# Altium integrated library Maxim Analog Filters.IntLib: 555 symbols (part 19 of 26)
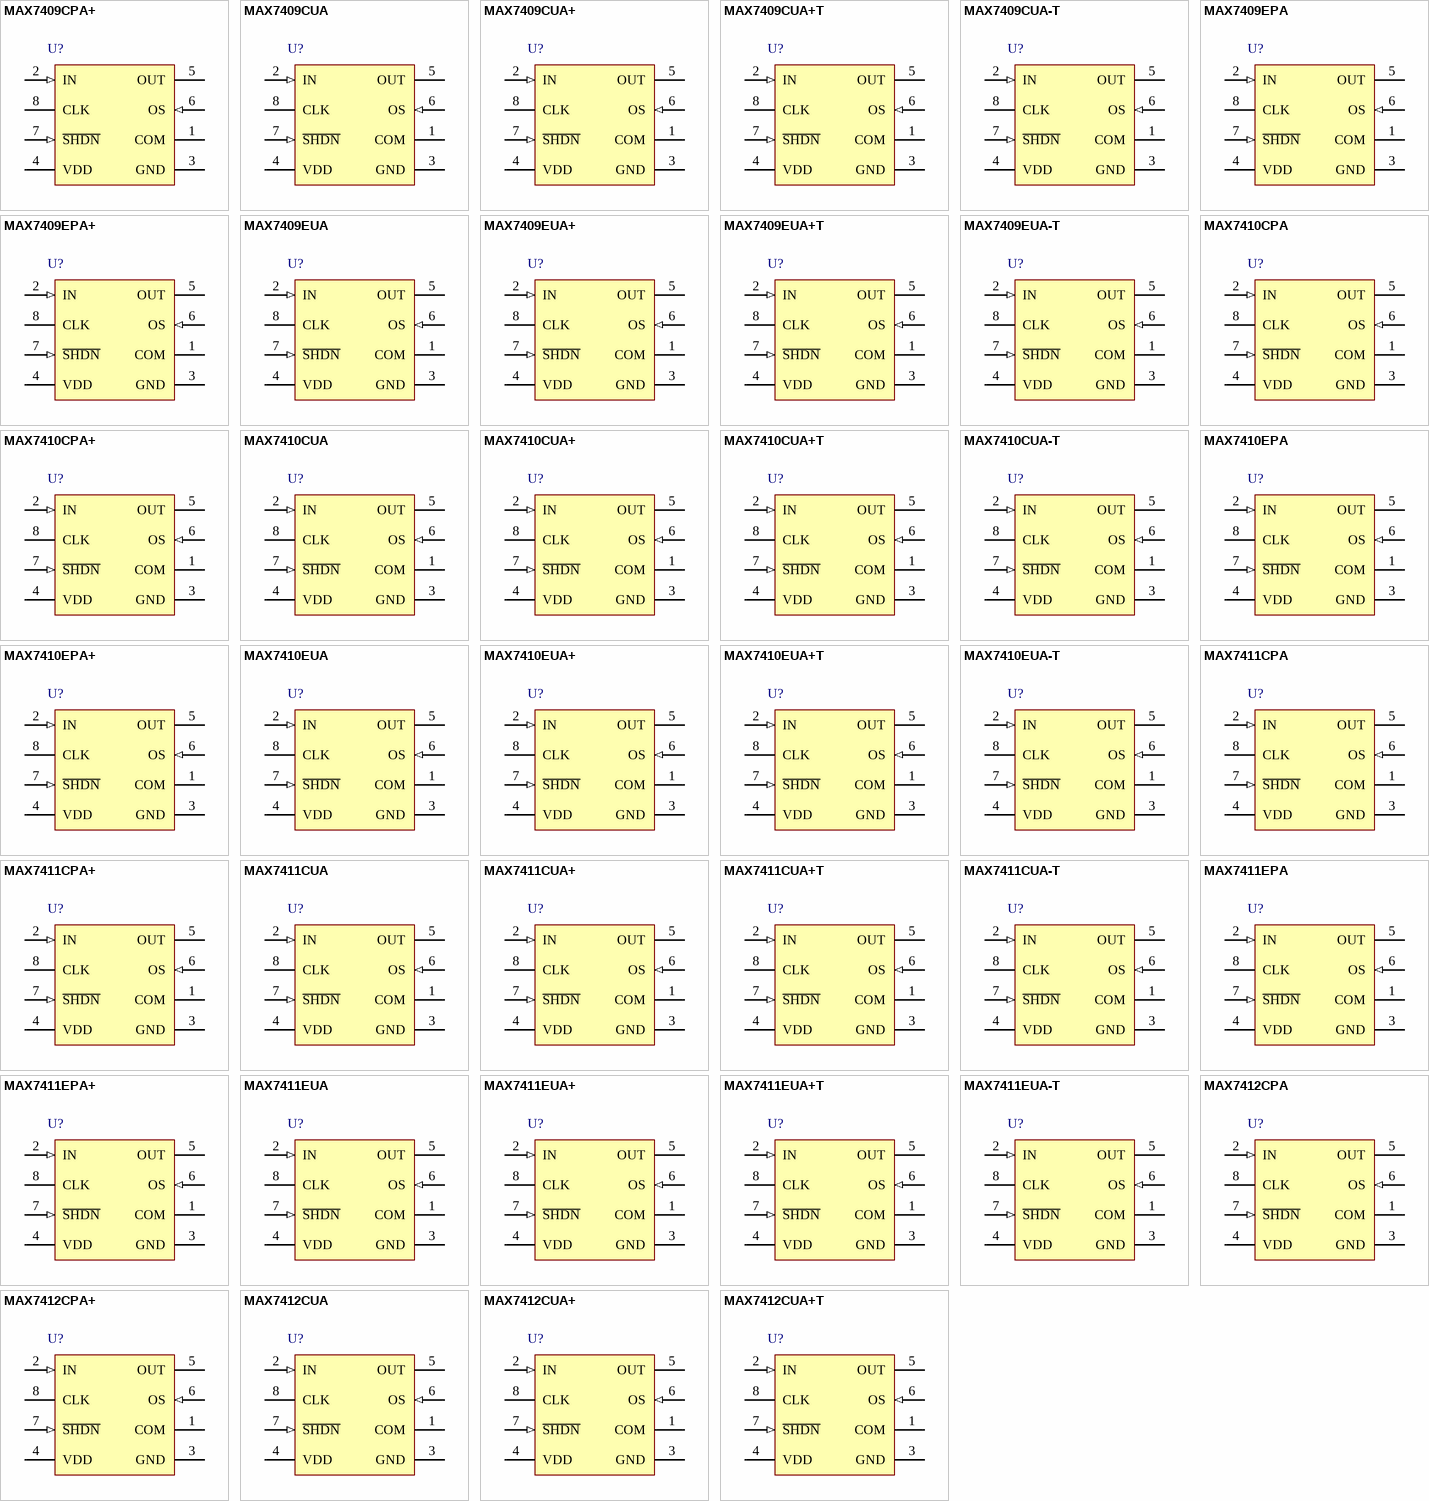
[diagram p35: symbols MAX7409CPA+ to MAX7412CUA+T]

## MAX7410EPA+
designator U?
5th-Order Switched Capacitor Lowpass Filter, Butterworth, 5 V, -40 to 85 degC, 8-Pin DIP (P8+1), Pb-Free; Generic Part Number: MAX7410; PartNumber: MAX7410EPA+; Filter Sections: 1; Order Per Filter Section: 5; Program Method: Clock; DatasheetVersion: Rev. 1; PackageVersion: Rev. E, 04/2011; PackageReference: P8+1; PackageDescription: 8-Pin Plastic Dual-In-Line, Narrow (0.3in) (P8+1), Body 9.375 x 6.985 mm, Pitch 2.54 mm; Supplier 1: Digi-Key; Supplier Part Number 1: MAX7410EPA+-ND; Supplier 2: Mouser; Supplier Part Number 2: 700-MAX7410EPA; Filter Characteristic: Butterworth; Filter Class: Switched Cap; Filter Type: Lowpass; RoHS: Pb-Free; Mounting Technology: Through Hole; Code_JEDEC: MS001-XX; ComponentLink1Description: Manufacturer URL; ComponentLink1URL: http://www.maximintegrated.com/; ComponentLink2Description: Datasheet; ComponentLink2URL: http://datasheets.maximintegrated.com/en/ds/MAX7409-MAX7414.pdf; ComponentLink3Description: Package Specification; ComponentLink3URL: http://pdfserv.maximintegrated.com/package_dwgs/21-0043.PDF
footprint MAXM-P8+1 (DIP, 8-Leads, Body 9.375x6.985mm, Pitch 2.54mm)
pins: 1 COM "Common Input. Biased internally at midsupply. Bypass externally to GND with a 0.1uF capacitor. To override internal biasing, drive with an external supply.", 2 IN (in) "Filter Input", 3 GND (power) "Ground", 4 VDD (power) "Positive Supply Input: +5V for MAX7400/MAX7403, +3V for MAX7404/MAX7407", 5 OUT (hiz) "Filter Output", 6 OS (in) "Offset Adjust Input. To adjust output offset, bias OS externally. Connect OS to COM if no offset adjustment is needed. Refer to Offset and Common-Mode Input Adjustment section.", 7 ~{SHDN} (in) "Shutdown Input. Drive low to enable shutdown mode; drive high or connect to VDD for normal operation.", 8 CLK "Clock Input. To override the internal oscillator, connect to an external clock; otherwise, connect an external capacitor (COSC) from CLK to GND to set the internal oscillator frequency."

## MAX7410EUA
designator U?
5th-Order Switched Capacitor Lowpass Filter, Butterworth, 5 V, -40 to 85 degC, 8-Pin SOP (U8-1); Generic Part Number: MAX7410; PartNumber: MAX7410EUA; Filter Sections: 1; Order Per Filter Section: 5; Program Method: Clock; DatasheetVersion: Rev. 1; PackageVersion: Rev. L, 08/2009; PackageReference: U8-1; PackageDescription: 8-Pin Micro-MAX, Thin Shrink Small-Outline (U8-1), Body 3 x 3 mm, Pitch 0.65mm; Supplier 1: Mouser; Supplier Part Number 1: N/A; Filter Characteristic: Butterworth; Filter Class: Switched Cap; Filter Type: Lowpass; Mounting Technology: Surface Mount; Code_JEDEC: MO-187; ComponentLink1Description: Manufacturer URL; ComponentLink1URL: http://www.maximintegrated.com/; ComponentLink2Description: Datasheet; ComponentLink2URL: http://datasheets.maximintegrated.com/en/ds/MAX7409-MAX7414.pdf; ComponentLink3Description: Package Specification; ComponentLink3URL: http://pdfserv.maximintegrated.com/package_dwgs/21-0036.PDF
footprint MAXM-U8-1_N (SOP, 8-Leads, Body 3x3mm, Pitch 0.65mm, IPC Medium Density)
footprint MAXM-U8-1_L (SOP, 8-Leads, Body 3x3mm, Pitch 0.65mm, IPC High Density)
footprint MAXM-U8-1_M (SOP, 8-Leads, Body 3x3mm, Pitch 0.65mm, IPC Low Density)
pins: 1 COM "Common Input. Biased internally at midsupply. Bypass externally to GND with a 0.1uF capacitor. To override internal biasing, drive with an external supply.", 2 IN (in) "Filter Input", 3 GND (power) "Ground", 4 VDD (power) "Positive Supply Input: +5V for MAX7400/MAX7403, +3V for MAX7404/MAX7407", 5 OUT (hiz) "Filter Output", 6 OS (in) "Offset Adjust Input. To adjust output offset, bias OS externally. Connect OS to COM if no offset adjustment is needed. Refer to Offset and Common-Mode Input Adjustment section.", 7 ~{SHDN} (in) "Shutdown Input. Drive low to enable shutdown mode; drive high or connect to VDD for normal operation.", 8 CLK "Clock Input. To override the internal oscillator, connect to an external clock; otherwise, connect an external capacitor (COSC) from CLK to GND to set the internal oscillator frequency."

## MAX7410EUA+
designator U?
5th-Order Switched Capacitor Lowpass Filter, Butterworth, 5 V, -40 to 85 degC, 8-Pin SOP (U8+1), Pb-Free; Generic Part Number: MAX7410; PartNumber: MAX7410EUA+; Filter Sections: 1; Order Per Filter Section: 5; Program Method: Clock; DatasheetVersion: Rev. 1; PackageVersion: Rev. L, 08/2009; PackageReference: U8+1; PackageDescription: 8-Pin Micro-MAX, Thin Shrink Small-Outline (U8+1), Body 3 x 3 mm, Pitch 0.65 mm; Supplier 1: Digi-Key; Supplier Part Number 1: MAX7410EUA+-ND; Supplier 2: Farnell; Supplier Part Number 2: 1550460; Supplier 3: Newark; Supplier Part Number 3: 26R6614; Supplier 4: Mouser; Supplier Part Number 4: 700-MAX7410EUA; Filter Characteristic: Butterworth; Filter Class: Switched Cap; Filter Type: Lowpass; RoHS: Pb-Free; Mounting Technology: Surface Mount; Code_JEDEC: MO-187; ComponentLink1Description: Manufacturer URL; ComponentLink1URL: http://www.maximintegrated.com/; ComponentLink2Description: Datasheet; ComponentLink2URL: http://datasheets.maximintegrated.com/en/ds/MAX7409-MAX7414.pdf; ComponentLink3Description: Package Specification; ComponentLink3URL: http://pdfserv.maximintegrated.com/package_dwgs/21-0036.PDF
footprint MAXM-U8+1_N (SOP, 8-Leads, Body 3x3mm, Pitch 0.65mm, IPC Medium Density)
footprint MAXM-U8+1_L (SOP, 8-Leads, Body 3x3mm, Pitch 0.65mm, IPC High Density)
footprint MAXM-U8+1_M (SOP, 8-Leads, Body 3x3mm, Pitch 0.65mm, IPC Low Density)
pins: 1 COM "Common Input. Biased internally at midsupply. Bypass externally to GND with a 0.1uF capacitor. To override internal biasing, drive with an external supply.", 2 IN (in) "Filter Input", 3 GND (power) "Ground", 4 VDD (power) "Positive Supply Input: +5V for MAX7400/MAX7403, +3V for MAX7404/MAX7407", 5 OUT (hiz) "Filter Output", 6 OS (in) "Offset Adjust Input. To adjust output offset, bias OS externally. Connect OS to COM if no offset adjustment is needed. Refer to Offset and Common-Mode Input Adjustment section.", 7 ~{SHDN} (in) "Shutdown Input. Drive low to enable shutdown mode; drive high or connect to VDD for normal operation.", 8 CLK "Clock Input. To override the internal oscillator, connect to an external clock; otherwise, connect an external capacitor (COSC) from CLK to GND to set the internal oscillator frequency."

## MAX7410EUA+T
designator U?
5th-Order Switched Capacitor Lowpass Filter, Butterworth, 5 V, -40 to 85 degC, 8-Pin SOP (U8+1), Pb-Free, Tape and Reel; Generic Part Number: MAX7410; PartNumber: MAX7410EUA+T; Filter Sections: 1; Order Per Filter Section: 5; Program Method: Clock; DatasheetVersion: Rev. 1; PackageVersion: Rev. L, 08/2009; PackageReference: U8+1; PackageDescription: 8-Pin Micro-MAX, Thin Shrink Small-Outline (U8+1), Body 3 x 3 mm, Pitch 0.65 mm; Supplier 1: Digi-Key; Supplier Part Number 1: MAX7410EUA+T-ND; Supplier 2: Mouser; Supplier Part Number 2: 700-MAX7410EUAT; Filter Characteristic: Butterworth; Filter Class: Switched Cap; Filter Type: Lowpass; Packing: Tape and Reel; RoHS: Pb-Free; Mounting Technology: Surface Mount; Code_JEDEC: MO-187; ComponentLink1Description: Manufacturer URL; ComponentLink1URL: http://www.maximintegrated.com/; ComponentLink2Description: Datasheet; ComponentLink2URL: http://datasheets.maximintegrated.com/en/ds/MAX7409-MAX7414.pdf; ComponentLink3Description: Package Specification; ComponentLink3URL: http://pdfserv.maximintegrated.com/package_dwgs/21-0036.PDF
footprint MAXM-U8+1_N (SOP, 8-Leads, Body 3x3mm, Pitch 0.65mm, IPC Medium Density)
footprint MAXM-U8+1_L (SOP, 8-Leads, Body 3x3mm, Pitch 0.65mm, IPC High Density)
footprint MAXM-U8+1_M (SOP, 8-Leads, Body 3x3mm, Pitch 0.65mm, IPC Low Density)
pins: 1 COM "Common Input. Biased internally at midsupply. Bypass externally to GND with a 0.1uF capacitor. To override internal biasing, drive with an external supply.", 2 IN (in) "Filter Input", 3 GND (power) "Ground", 4 VDD (power) "Positive Supply Input: +5V for MAX7400/MAX7403, +3V for MAX7404/MAX7407", 5 OUT (hiz) "Filter Output", 6 OS (in) "Offset Adjust Input. To adjust output offset, bias OS externally. Connect OS to COM if no offset adjustment is needed. Refer to Offset and Common-Mode Input Adjustment section.", 7 ~{SHDN} (in) "Shutdown Input. Drive low to enable shutdown mode; drive high or connect to VDD for normal operation.", 8 CLK "Clock Input. To override the internal oscillator, connect to an external clock; otherwise, connect an external capacitor (COSC) from CLK to GND to set the internal oscillator frequency."

## MAX7410EUA-T
designator U?
5th-Order Switched Capacitor Lowpass Filter, Butterworth, 5 V, -40 to 85 degC, 8-Pin SOP (U8-1),Tape and Reel; Generic Part Number: MAX7410; PartNumber: MAX7410EUA-T; Filter Sections: 1; Order Per Filter Section: 5; Program Method: Clock; DatasheetVersion: Rev. 1; PackageVersion: Rev. L, 08/2009; PackageReference: U8-1; PackageDescription: 8-Pin Micro-MAX, Thin Shrink Small-Outline (U8-1), Body 3 x 3 mm, Pitch 0.65mm; Supplier 1: Mouser; Supplier Part Number 1: N/A; Filter Characteristic: Butterworth; Filter Class: Switched Cap; Filter Type: Lowpass; Packing: Tape and Reel; Mounting Technology: Surface Mount; Code_JEDEC: MO-187; ComponentLink1Description: Manufacturer URL; ComponentLink1URL: http://www.maximintegrated.com/; ComponentLink2Description: Datasheet; ComponentLink2URL: http://datasheets.maximintegrated.com/en/ds/MAX7409-MAX7414.pdf; ComponentLink3Description: Package Specification; ComponentLink3URL: http://pdfserv.maximintegrated.com/package_dwgs/21-0036.PDF
footprint MAXM-U8-1_N (SOP, 8-Leads, Body 3x3mm, Pitch 0.65mm, IPC Medium Density)
footprint MAXM-U8-1_L (SOP, 8-Leads, Body 3x3mm, Pitch 0.65mm, IPC High Density)
footprint MAXM-U8-1_M (SOP, 8-Leads, Body 3x3mm, Pitch 0.65mm, IPC Low Density)
pins: 1 COM "Common Input. Biased internally at midsupply. Bypass externally to GND with a 0.1uF capacitor. To override internal biasing, drive with an external supply.", 2 IN (in) "Filter Input", 3 GND (power) "Ground", 4 VDD (power) "Positive Supply Input: +5V for MAX7400/MAX7403, +3V for MAX7404/MAX7407", 5 OUT (hiz) "Filter Output", 6 OS (in) "Offset Adjust Input. To adjust output offset, bias OS externally. Connect OS to COM if no offset adjustment is needed. Refer to Offset and Common-Mode Input Adjustment section.", 7 ~{SHDN} (in) "Shutdown Input. Drive low to enable shutdown mode; drive high or connect to VDD for normal operation.", 8 CLK "Clock Input. To override the internal oscillator, connect to an external clock; otherwise, connect an external capacitor (COSC) from CLK to GND to set the internal oscillator frequency."

## MAX7411CPA
designator U?
5th-Order Switched Capacitor Lowpass Filter, Elliptic, 5 V, 0 to 70 degC, 8-Pin DIP (P8-1); Generic Part Number: MAX7411; PartNumber: MAX7411CPA; Filter Sections: 1; Order Per Filter Section: 5; Program Method: Clock; DatasheetVersion: Rev. 1; PackageVersion: Rev. E, 04/2011; PackageReference: P8-1; PackageDescription: 8-Pin Plastic Dual-In-Line, Narrow (0.3in) (P8-1), Body 9.375 x 6.985 mm, Pitch 2.54 mm; Supplier 1: Mouser; Supplier Part Number 1: N/A; Filter Characteristic: Elliptic; Filter Class: Switched Cap; Filter Type: Lowpass; Mounting Technology: Through Hole; Code_JEDEC: MS001-XX; ComponentLink1Description: Manufacturer URL; ComponentLink1URL: http://www.maximintegrated.com/; ComponentLink2Description: Datasheet; ComponentLink2URL: http://datasheets.maximintegrated.com/en/ds/MAX7408-MAX7415.pdf; ComponentLink3Description: Package Specification; ComponentLink3URL: http://pdfserv.maximintegrated.com/package_dwgs/21-0043.PDF
footprint MAXM-P8-1 (DIP, 8-Leads, Body 9.375x6.985mm, Pitch 2.54mm)
pins: 1 COM "Common Input. Biased internally at midsupply. Bypass externally to GND with a 0.1uF capacitor. To override internal biasing, drive with an external supply.", 2 IN (in) "Filter Input", 3 GND (power) "Ground", 4 VDD (power) "Positive Supply Input: +5V for MAX7400/MAX7403, +3V for MAX7404/MAX7407", 5 OUT (hiz) "Filter Output", 6 OS (in) "Offset Adjust Input. To adjust output offset, bias OS externally. Connect OS to COM if no offset adjustment is needed. Refer to Offset and Common-Mode Input Adjustment section.", 7 ~{SHDN} (in) "Shutdown Input. Drive low to enable shutdown mode; drive high or connect to VDD for normal operation.", 8 CLK "Clock Input. To override the internal oscillator, connect to an external clock; otherwise, connect an external capacitor (COSC) from CLK to GND to set the internal oscillator frequency."

## MAX7411CPA+
designator U?
5th-Order Switched Capacitor Lowpass Filter, Elliptic, 5 V, 0 to 70 degC, 8-Pin DIP (P8+1), Pb-Free; Generic Part Number: MAX7411; PartNumber: MAX7411CPA+; Filter Sections: 1; Order Per Filter Section: 5; Program Method: Clock; DatasheetVersion: Rev. 1; PackageVersion: Rev. E, 04/2011; PackageReference: P8+1; PackageDescription: 8-Pin Plastic Dual-In-Line, Narrow (0.3in) (P8+1), Body 9.375 x 6.985 mm, Pitch 2.54 mm; Supplier 1: Digi-Key; Supplier Part Number 1: MAX7411CPA+-ND; Supplier 2: Mouser; Supplier Part Number 2: 700-MAX7411CPA; Filter Characteristic: Elliptic; Filter Class: Switched Cap; Filter Type: Lowpass; RoHS: Pb-Free; Mounting Technology: Through Hole; Code_JEDEC: MS001-XX; ComponentLink1Description: Manufacturer URL; ComponentLink1URL: http://www.maximintegrated.com/; ComponentLink2Description: Datasheet; ComponentLink2URL: http://datasheets.maximintegrated.com/en/ds/MAX7408-MAX7415.pdf; ComponentLink3Description: Package Specification; ComponentLink3URL: http://pdfserv.maximintegrated.com/package_dwgs/21-0043.PDF
footprint MAXM-P8+1 (DIP, 8-Leads, Body 9.375x6.985mm, Pitch 2.54mm)
pins: 1 COM "Common Input. Biased internally at midsupply. Bypass externally to GND with a 0.1uF capacitor. To override internal biasing, drive with an external supply.", 2 IN (in) "Filter Input", 3 GND (power) "Ground", 4 VDD (power) "Positive Supply Input: +5V for MAX7400/MAX7403, +3V for MAX7404/MAX7407", 5 OUT (hiz) "Filter Output", 6 OS (in) "Offset Adjust Input. To adjust output offset, bias OS externally. Connect OS to COM if no offset adjustment is needed. Refer to Offset and Common-Mode Input Adjustment section.", 7 ~{SHDN} (in) "Shutdown Input. Drive low to enable shutdown mode; drive high or connect to VDD for normal operation.", 8 CLK "Clock Input. To override the internal oscillator, connect to an external clock; otherwise, connect an external capacitor (COSC) from CLK to GND to set the internal oscillator frequency."

## MAX7411CUA
designator U?
5th-Order Switched Capacitor Lowpass Filter, Elliptic, 5 V, 0 to 70 degC, 8-Pin SOP (U8-1); Generic Part Number: MAX7411; PartNumber: MAX7411CUA; Filter Sections: 1; Order Per Filter Section: 5; Program Method: Clock; DatasheetVersion: Rev. 1; PackageVersion: Rev. L, 08/2009; PackageReference: U8-1; PackageDescription: 8-Pin Micro-MAX, Thin Shrink Small-Outline (U8-1), Body 3 x 3 mm, Pitch 0.65mm; Supplier 1: Mouser; Supplier Part Number 1: N/A; Filter Characteristic: Elliptic; Filter Class: Switched Cap; Filter Type: Lowpass; Mounting Technology: Surface Mount; Code_JEDEC: MO-187; ComponentLink1Description: Manufacturer URL; ComponentLink1URL: http://www.maximintegrated.com/; ComponentLink2Description: Datasheet; ComponentLink2URL: http://datasheets.maximintegrated.com/en/ds/MAX7408-MAX7415.pdf; ComponentLink3Description: Package Specification; ComponentLink3URL: http://pdfserv.maximintegrated.com/package_dwgs/21-0036.PDF
footprint MAXM-U8-1_N (SOP, 8-Leads, Body 3x3mm, Pitch 0.65mm, IPC Medium Density)
footprint MAXM-U8-1_L (SOP, 8-Leads, Body 3x3mm, Pitch 0.65mm, IPC High Density)
footprint MAXM-U8-1_M (SOP, 8-Leads, Body 3x3mm, Pitch 0.65mm, IPC Low Density)
pins: 1 COM "Common Input. Biased internally at midsupply. Bypass externally to GND with a 0.1uF capacitor. To override internal biasing, drive with an external supply.", 2 IN (in) "Filter Input", 3 GND (power) "Ground", 4 VDD (power) "Positive Supply Input: +5V for MAX7400/MAX7403, +3V for MAX7404/MAX7407", 5 OUT (hiz) "Filter Output", 6 OS (in) "Offset Adjust Input. To adjust output offset, bias OS externally. Connect OS to COM if no offset adjustment is needed. Refer to Offset and Common-Mode Input Adjustment section.", 7 ~{SHDN} (in) "Shutdown Input. Drive low to enable shutdown mode; drive high or connect to VDD for normal operation.", 8 CLK "Clock Input. To override the internal oscillator, connect to an external clock; otherwise, connect an external capacitor (COSC) from CLK to GND to set the internal oscillator frequency."

## MAX7411CUA+
designator U?
5th-Order Switched Capacitor Lowpass Filter, Elliptic, 5 V, 0 to 70 degC, 8-Pin SOP (U8+1), Pb-Free; Generic Part Number: MAX7411; PartNumber: MAX7411CUA+; Filter Sections: 1; Order Per Filter Section: 5; Program Method: Clock; DatasheetVersion: Rev. 1; PackageVersion: Rev. L, 08/2009; PackageReference: U8+1; PackageDescription: 8-Pin Micro-MAX, Thin Shrink Small-Outline (U8+1), Body 3 x 3 mm, Pitch 0.65 mm; Supplier 1: Digi-Key; Supplier Part Number 1: MAX7411CUA+-ND; Supplier 2: Mouser; Supplier Part Number 2: 700-MAX7411CUA; Filter Characteristic: Elliptic; Filter Class: Switched Cap; Filter Type: Lowpass; RoHS: Pb-Free; Mounting Technology: Surface Mount; Code_JEDEC: MO-187; ComponentLink1Description: Manufacturer URL; ComponentLink1URL: http://www.maximintegrated.com/; ComponentLink2Description: Datasheet; ComponentLink2URL: http://datasheets.maximintegrated.com/en/ds/MAX7408-MAX7415.pdf; ComponentLink3Description: Package Specification; ComponentLink3URL: http://pdfserv.maximintegrated.com/package_dwgs/21-0036.PDF
footprint MAXM-U8+1_N (SOP, 8-Leads, Body 3x3mm, Pitch 0.65mm, IPC Medium Density)
footprint MAXM-U8+1_L (SOP, 8-Leads, Body 3x3mm, Pitch 0.65mm, IPC High Density)
footprint MAXM-U8+1_M (SOP, 8-Leads, Body 3x3mm, Pitch 0.65mm, IPC Low Density)
pins: 1 COM "Common Input. Biased internally at midsupply. Bypass externally to GND with a 0.1uF capacitor. To override internal biasing, drive with an external supply.", 2 IN (in) "Filter Input", 3 GND (power) "Ground", 4 VDD (power) "Positive Supply Input: +5V for MAX7400/MAX7403, +3V for MAX7404/MAX7407", 5 OUT (hiz) "Filter Output", 6 OS (in) "Offset Adjust Input. To adjust output offset, bias OS externally. Connect OS to COM if no offset adjustment is needed. Refer to Offset and Common-Mode Input Adjustment section.", 7 ~{SHDN} (in) "Shutdown Input. Drive low to enable shutdown mode; drive high or connect to VDD for normal operation.", 8 CLK "Clock Input. To override the internal oscillator, connect to an external clock; otherwise, connect an external capacitor (COSC) from CLK to GND to set the internal oscillator frequency."

## MAX7411CUA+T
designator U?
5th-Order Switched Capacitor Lowpass Filter, Elliptic, 5 V, 0 to 70 degC, 8-Pin SOP (U8+1), Pb-Free, Tape and Reel; Generic Part Number: MAX7411; PartNumber: MAX7411CUA+T; Filter Sections: 1; Order Per Filter Section: 5; Program Method: Clock; DatasheetVersion: Rev. 1; PackageVersion: Rev. L, 08/2009; PackageReference: U8+1; PackageDescription: 8-Pin Micro-MAX, Thin Shrink Small-Outline (U8+1), Body 3 x 3 mm, Pitch 0.65 mm; Supplier 1: Digi-Key; Supplier Part Number 1: MAX7411CUA+T-ND; Supplier 2: Mouser; Supplier Part Number 2: 700-MAX7411CUAT; Filter Characteristic: Elliptic; Filter Class: Switched Cap; Filter Type: Lowpass; Packing: Tape and Reel; RoHS: Pb-Free; Mounting Technology: Surface Mount; Code_JEDEC: MO-187; ComponentLink1Description: Manufacturer URL; ComponentLink1URL: http://www.maximintegrated.com/; ComponentLink2Description: Datasheet; ComponentLink2URL: http://datasheets.maximintegrated.com/en/ds/MAX7408-MAX7415.pdf; ComponentLink3Description: Package Specification; ComponentLink3URL: http://pdfserv.maximintegrated.com/package_dwgs/21-0036.PDF
footprint MAXM-U8+1_N (SOP, 8-Leads, Body 3x3mm, Pitch 0.65mm, IPC Medium Density)
footprint MAXM-U8+1_L (SOP, 8-Leads, Body 3x3mm, Pitch 0.65mm, IPC High Density)
footprint MAXM-U8+1_M (SOP, 8-Leads, Body 3x3mm, Pitch 0.65mm, IPC Low Density)
pins: 1 COM "Common Input. Biased internally at midsupply. Bypass externally to GND with a 0.1uF capacitor. To override internal biasing, drive with an external supply.", 2 IN (in) "Filter Input", 3 GND (power) "Ground", 4 VDD (power) "Positive Supply Input: +5V for MAX7400/MAX7403, +3V for MAX7404/MAX7407", 5 OUT (hiz) "Filter Output", 6 OS (in) "Offset Adjust Input. To adjust output offset, bias OS externally. Connect OS to COM if no offset adjustment is needed. Refer to Offset and Common-Mode Input Adjustment section.", 7 ~{SHDN} (in) "Shutdown Input. Drive low to enable shutdown mode; drive high or connect to VDD for normal operation.", 8 CLK "Clock Input. To override the internal oscillator, connect to an external clock; otherwise, connect an external capacitor (COSC) from CLK to GND to set the internal oscillator frequency."

## MAX7411CUA-T
designator U?
5th-Order Switched Capacitor Lowpass Filter, Elliptic, 5 V, 0 to 70 degC, 8-Pin SOP (U8-1), Tape and Reel; Generic Part Number: MAX7411; PartNumber: MAX7411CUA-T; Filter Sections: 1; Order Per Filter Section: 5; Program Method: Clock; DatasheetVersion: Rev. 1; PackageVersion: Rev. L, 08/2009; PackageReference: U8-1; PackageDescription: 8-Pin Micro-MAX, Thin Shrink Small-Outline (U8-1), Body 3 x 3 mm, Pitch 0.65mm; Supplier 1: Mouser; Supplier Part Number 1: N/A; Filter Characteristic: Elliptic; Filter Class: Switched Cap; Filter Type: Lowpass; Packing: Tape and Reel; Mounting Technology: Surface Mount; Code_JEDEC: MO-187; ComponentLink1Description: Manufacturer URL; ComponentLink1URL: http://www.maximintegrated.com/; ComponentLink2Description: Datasheet; ComponentLink2URL: http://datasheets.maximintegrated.com/en/ds/MAX7408-MAX7415.pdf; ComponentLink3Description: Package Specification; ComponentLink3URL: http://pdfserv.maximintegrated.com/package_dwgs/21-0036.PDF
footprint MAXM-U8-1_N (SOP, 8-Leads, Body 3x3mm, Pitch 0.65mm, IPC Medium Density)
footprint MAXM-U8-1_L (SOP, 8-Leads, Body 3x3mm, Pitch 0.65mm, IPC High Density)
footprint MAXM-U8-1_M (SOP, 8-Leads, Body 3x3mm, Pitch 0.65mm, IPC Low Density)
pins: 1 COM "Common Input. Biased internally at midsupply. Bypass externally to GND with a 0.1uF capacitor. To override internal biasing, drive with an external supply.", 2 IN (in) "Filter Input", 3 GND (power) "Ground", 4 VDD (power) "Positive Supply Input: +5V for MAX7400/MAX7403, +3V for MAX7404/MAX7407", 5 OUT (hiz) "Filter Output", 6 OS (in) "Offset Adjust Input. To adjust output offset, bias OS externally. Connect OS to COM if no offset adjustment is needed. Refer to Offset and Common-Mode Input Adjustment section.", 7 ~{SHDN} (in) "Shutdown Input. Drive low to enable shutdown mode; drive high or connect to VDD for normal operation.", 8 CLK "Clock Input. To override the internal oscillator, connect to an external clock; otherwise, connect an external capacitor (COSC) from CLK to GND to set the internal oscillator frequency."

## MAX7411EPA
designator U?
5th-Order Switched Capacitor Lowpass Filter, Elliptic, 5 V, -40 to 85 degC, 8-Pin DIP (P8-1); Generic Part Number: MAX7411; PartNumber: MAX7411EPA; Filter Sections: 1; Order Per Filter Section: 5; Program Method: Clock; DatasheetVersion: Rev. 1; PackageVersion: Rev. E, 04/2011; PackageReference: P8-1; PackageDescription: 8-Pin Plastic Dual-In-Line, Narrow (0.3in) (P8-1), Body 9.375 x 6.985 mm, Pitch 2.54 mm; Supplier 1: Mouser; Supplier Part Number 1: N/A; Filter Characteristic: Elliptic; Filter Class: Switched Cap; Filter Type: Lowpass; Mounting Technology: Through Hole; Code_JEDEC: MS001-XX; ComponentLink1Description: Manufacturer URL; ComponentLink1URL: http://www.maximintegrated.com/; ComponentLink2Description: Datasheet; ComponentLink2URL: http://datasheets.maximintegrated.com/en/ds/MAX7408-MAX7415.pdf; ComponentLink3Description: Package Specification; ComponentLink3URL: http://pdfserv.maximintegrated.com/package_dwgs/21-0043.PDF
footprint MAXM-P8-1 (DIP, 8-Leads, Body 9.375x6.985mm, Pitch 2.54mm)
pins: 1 COM "Common Input. Biased internally at midsupply. Bypass externally to GND with a 0.1uF capacitor. To override internal biasing, drive with an external supply.", 2 IN (in) "Filter Input", 3 GND (power) "Ground", 4 VDD (power) "Positive Supply Input: +5V for MAX7400/MAX7403, +3V for MAX7404/MAX7407", 5 OUT (hiz) "Filter Output", 6 OS (in) "Offset Adjust Input. To adjust output offset, bias OS externally. Connect OS to COM if no offset adjustment is needed. Refer to Offset and Common-Mode Input Adjustment section.", 7 ~{SHDN} (in) "Shutdown Input. Drive low to enable shutdown mode; drive high or connect to VDD for normal operation.", 8 CLK "Clock Input. To override the internal oscillator, connect to an external clock; otherwise, connect an external capacitor (COSC) from CLK to GND to set the internal oscillator frequency."

## MAX7411EPA+
designator U?
5th-Order Switched Capacitor Lowpass Filter, Elliptic, 5 V, -40 to 85 degC, 8-Pin DIP (P8+1), Pb-Free; Generic Part Number: MAX7411; PartNumber: MAX7411EPA+; Filter Sections: 1; Order Per Filter Section: 5; Program Method: Clock; DatasheetVersion: Rev. 1; PackageVersion: Rev. E, 04/2011; PackageReference: P8+1; PackageDescription: 8-Pin Plastic Dual-In-Line, Narrow (0.3in) (P8+1), Body 9.375 x 6.985 mm, Pitch 2.54 mm; Supplier 1: Digi-Key; Supplier Part Number 1: MAX7411EPA+-ND; Supplier 2: Mouser; Supplier Part Number 2: 700-MAX7411EPA; Filter Characteristic: Elliptic; Filter Class: Switched Cap; Filter Type: Lowpass; RoHS: Pb-Free; Mounting Technology: Through Hole; Code_JEDEC: MS001-XX; ComponentLink1Description: Manufacturer URL; ComponentLink1URL: http://www.maximintegrated.com/; ComponentLink2Description: Datasheet; ComponentLink2URL: http://datasheets.maximintegrated.com/en/ds/MAX7408-MAX7415.pdf; ComponentLink3Description: Package Specification; ComponentLink3URL: http://pdfserv.maximintegrated.com/package_dwgs/21-0043.PDF
footprint MAXM-P8+1 (DIP, 8-Leads, Body 9.375x6.985mm, Pitch 2.54mm)
pins: 1 COM "Common Input. Biased internally at midsupply. Bypass externally to GND with a 0.1uF capacitor. To override internal biasing, drive with an external supply.", 2 IN (in) "Filter Input", 3 GND (power) "Ground", 4 VDD (power) "Positive Supply Input: +5V for MAX7400/MAX7403, +3V for MAX7404/MAX7407", 5 OUT (hiz) "Filter Output", 6 OS (in) "Offset Adjust Input. To adjust output offset, bias OS externally. Connect OS to COM if no offset adjustment is needed. Refer to Offset and Common-Mode Input Adjustment section.", 7 ~{SHDN} (in) "Shutdown Input. Drive low to enable shutdown mode; drive high or connect to VDD for normal operation.", 8 CLK "Clock Input. To override the internal oscillator, connect to an external clock; otherwise, connect an external capacitor (COSC) from CLK to GND to set the internal oscillator frequency."

## MAX7411EUA
designator U?
5th-Order Switched Capacitor Lowpass Filter, Elliptic, 5 V, -40 to 85 degC, 8-Pin SOP (U8-1); Generic Part Number: MAX7411; PartNumber: MAX7411EUA; Filter Sections: 1; Order Per Filter Section: 5; Program Method: Clock; DatasheetVersion: Rev. 1; PackageVersion: Rev. L, 08/2009; PackageReference: U8-1; PackageDescription: 8-Pin Micro-MAX, Thin Shrink Small-Outline (U8-1), Body 3 x 3 mm, Pitch 0.65mm; Supplier 1: Mouser; Supplier Part Number 1: N/A; Filter Characteristic: Elliptic; Filter Class: Switched Cap; Filter Type: Lowpass; Mounting Technology: Surface Mount; Code_JEDEC: MO-187; ComponentLink1Description: Manufacturer URL; ComponentLink1URL: http://www.maximintegrated.com/; ComponentLink2Description: Datasheet; ComponentLink2URL: http://datasheets.maximintegrated.com/en/ds/MAX7408-MAX7415.pdf; ComponentLink3Description: Package Specification; ComponentLink3URL: http://pdfserv.maximintegrated.com/package_dwgs/21-0036.PDF
footprint MAXM-U8-1_N (SOP, 8-Leads, Body 3x3mm, Pitch 0.65mm, IPC Medium Density)
footprint MAXM-U8-1_L (SOP, 8-Leads, Body 3x3mm, Pitch 0.65mm, IPC High Density)
footprint MAXM-U8-1_M (SOP, 8-Leads, Body 3x3mm, Pitch 0.65mm, IPC Low Density)
pins: 1 COM "Common Input. Biased internally at midsupply. Bypass externally to GND with a 0.1uF capacitor. To override internal biasing, drive with an external supply.", 2 IN (in) "Filter Input", 3 GND (power) "Ground", 4 VDD (power) "Positive Supply Input: +5V for MAX7400/MAX7403, +3V for MAX7404/MAX7407", 5 OUT (hiz) "Filter Output", 6 OS (in) "Offset Adjust Input. To adjust output offset, bias OS externally. Connect OS to COM if no offset adjustment is needed. Refer to Offset and Common-Mode Input Adjustment section.", 7 ~{SHDN} (in) "Shutdown Input. Drive low to enable shutdown mode; drive high or connect to VDD for normal operation.", 8 CLK "Clock Input. To override the internal oscillator, connect to an external clock; otherwise, connect an external capacitor (COSC) from CLK to GND to set the internal oscillator frequency."

## MAX7411EUA+
designator U?
5th-Order Switched Capacitor Lowpass Filter, Elliptic, 5 V, -40 to 85 degC, 8-Pin SOP (U8+1), Pb-Free; Generic Part Number: MAX7411; PartNumber: MAX7411EUA+; Filter Sections: 1; Order Per Filter Section: 5; Program Method: Clock; DatasheetVersion: Rev. 1; PackageVersion: Rev. L, 08/2009; PackageReference: U8+1; PackageDescription: 8-Pin Micro-MAX, Thin Shrink Small-Outline (U8+1), Body 3 x 3 mm, Pitch 0.65 mm; Supplier 1: Digi-Key; Supplier Part Number 1: MAX7411EUA+-ND; Supplier 2: Farnell; Supplier Part Number 2: 2071330; Supplier 3: Newark; Supplier Part Number 3: 23K6499; Supplier 4: Mouser; Supplier Part Number 4: 700-MAX7411EUA; Filter Characteristic: Elliptic; Filter Class: Switched Cap; Filter Type: Lowpass; RoHS: Pb-Free; Mounting Technology: Surface Mount; Code_JEDEC: MO-187; ComponentLink1Description: Manufacturer URL; ComponentLink1URL: http://www.maximintegrated.com/; ComponentLink2Description: Datasheet; ComponentLink2URL: http://datasheets.maximintegrated.com/en/ds/MAX7408-MAX7415.pdf; ComponentLink3Description: Package Specification; ComponentLink3URL: http://pdfserv.maximintegrated.com/package_dwgs/21-0036.PDF
footprint MAXM-U8+1_N (SOP, 8-Leads, Body 3x3mm, Pitch 0.65mm, IPC Medium Density)
footprint MAXM-U8+1_L (SOP, 8-Leads, Body 3x3mm, Pitch 0.65mm, IPC High Density)
footprint MAXM-U8+1_M (SOP, 8-Leads, Body 3x3mm, Pitch 0.65mm, IPC Low Density)
pins: 1 COM "Common Input. Biased internally at midsupply. Bypass externally to GND with a 0.1uF capacitor. To override internal biasing, drive with an external supply.", 2 IN (in) "Filter Input", 3 GND (power) "Ground", 4 VDD (power) "Positive Supply Input: +5V for MAX7400/MAX7403, +3V for MAX7404/MAX7407", 5 OUT (hiz) "Filter Output", 6 OS (in) "Offset Adjust Input. To adjust output offset, bias OS externally. Connect OS to COM if no offset adjustment is needed. Refer to Offset and Common-Mode Input Adjustment section.", 7 ~{SHDN} (in) "Shutdown Input. Drive low to enable shutdown mode; drive high or connect to VDD for normal operation.", 8 CLK "Clock Input. To override the internal oscillator, connect to an external clock; otherwise, connect an external capacitor (COSC) from CLK to GND to set the internal oscillator frequency."

## MAX7411EUA+T
designator U?
5th-Order Switched Capacitor Lowpass Filter, Elliptic, 5 V, -40 to 85 degC, 8-Pin SOP (U8+1), Pb-Free, Tape and Reel; Generic Part Number: MAX7411; PartNumber: MAX7411EUA+T; Filter Sections: 1; Order Per Filter Section: 5; Program Method: Clock; DatasheetVersion: Rev. 1; PackageVersion: Rev. L, 08/2009; PackageReference: U8+1; PackageDescription: 8-Pin Micro-MAX, Thin Shrink Small-Outline (U8+1), Body 3 x 3 mm, Pitch 0.65 mm; Supplier 1: Digi-Key; Supplier Part Number 1: MAX7411EUA+T-ND; Supplier 2: Mouser; Supplier Part Number 2: 700-MAX7411EUAT; Filter Characteristic: Elliptic; Filter Class: Switched Cap; Filter Type: Lowpass; Packing: Tape and Reel; RoHS: Pb-Free; Mounting Technology: Surface Mount; Code_JEDEC: MO-187; ComponentLink1Description: Manufacturer URL; ComponentLink1URL: http://www.maximintegrated.com/; ComponentLink2Description: Datasheet; ComponentLink2URL: http://datasheets.maximintegrated.com/en/ds/MAX7408-MAX7415.pdf; ComponentLink3Description: Package Specification; ComponentLink3URL: http://pdfserv.maximintegrated.com/package_dwgs/21-0036.PDF
footprint MAXM-U8+1_N (SOP, 8-Leads, Body 3x3mm, Pitch 0.65mm, IPC Medium Density)
footprint MAXM-U8+1_L (SOP, 8-Leads, Body 3x3mm, Pitch 0.65mm, IPC High Density)
footprint MAXM-U8+1_M (SOP, 8-Leads, Body 3x3mm, Pitch 0.65mm, IPC Low Density)
pins: 1 COM "Common Input. Biased internally at midsupply. Bypass externally to GND with a 0.1uF capacitor. To override internal biasing, drive with an external supply.", 2 IN (in) "Filter Input", 3 GND (power) "Ground", 4 VDD (power) "Positive Supply Input: +5V for MAX7400/MAX7403, +3V for MAX7404/MAX7407", 5 OUT (hiz) "Filter Output", 6 OS (in) "Offset Adjust Input. To adjust output offset, bias OS externally. Connect OS to COM if no offset adjustment is needed. Refer to Offset and Common-Mode Input Adjustment section.", 7 ~{SHDN} (in) "Shutdown Input. Drive low to enable shutdown mode; drive high or connect to VDD for normal operation.", 8 CLK "Clock Input. To override the internal oscillator, connect to an external clock; otherwise, connect an external capacitor (COSC) from CLK to GND to set the internal oscillator frequency."

## MAX7411EUA-T
designator U?
5th-Order Switched Capacitor Lowpass Filter, Elliptic, 5 V, -40 to 85 degC, 8-Pin SOP (U8-1), Tape and Reel; Generic Part Number: MAX7411; PartNumber: MAX7411EUA-T; Filter Sections: 1; Order Per Filter Section: 5; Program Method: Clock; DatasheetVersion: Rev. 1; PackageVersion: Rev. L, 08/2009; PackageReference: U8-1; PackageDescription: 8-Pin Micro-MAX, Thin Shrink Small-Outline (U8-1), Body 3 x 3 mm, Pitch 0.65mm; Supplier 1: Mouser; Supplier Part Number 1: N/A; Filter Characteristic: Elliptic; Filter Class: Switched Cap; Filter Type: Lowpass; Packing: Tape and Reel; Mounting Technology: Surface Mount; Code_JEDEC: MO-187; ComponentLink1Description: Manufacturer URL; ComponentLink1URL: http://www.maximintegrated.com/; ComponentLink2Description: Datasheet; ComponentLink2URL: http://datasheets.maximintegrated.com/en/ds/MAX7408-MAX7415.pdf; ComponentLink3Description: Package Specification; ComponentLink3URL: http://pdfserv.maximintegrated.com/package_dwgs/21-0036.PDF
footprint MAXM-U8-1_N (SOP, 8-Leads, Body 3x3mm, Pitch 0.65mm, IPC Medium Density)
footprint MAXM-U8-1_L (SOP, 8-Leads, Body 3x3mm, Pitch 0.65mm, IPC High Density)
footprint MAXM-U8-1_M (SOP, 8-Leads, Body 3x3mm, Pitch 0.65mm, IPC Low Density)
pins: 1 COM "Common Input. Biased internally at midsupply. Bypass externally to GND with a 0.1uF capacitor. To override internal biasing, drive with an external supply.", 2 IN (in) "Filter Input", 3 GND (power) "Ground", 4 VDD (power) "Positive Supply Input: +5V for MAX7400/MAX7403, +3V for MAX7404/MAX7407", 5 OUT (hiz) "Filter Output", 6 OS (in) "Offset Adjust Input. To adjust output offset, bias OS externally. Connect OS to COM if no offset adjustment is needed. Refer to Offset and Common-Mode Input Adjustment section.", 7 ~{SHDN} (in) "Shutdown Input. Drive low to enable shutdown mode; drive high or connect to VDD for normal operation.", 8 CLK "Clock Input. To override the internal oscillator, connect to an external clock; otherwise, connect an external capacitor (COSC) from CLK to GND to set the internal oscillator frequency."

## MAX7412CPA
designator U?
5th-Order Switched Capacitor Lowpass Filter, Elliptic, 3 V, 0 to 70 degC, 8-Pin DIP (P8-1); Generic Part Number: MAX7412; PartNumber: MAX7412CPA; Filter Sections: 1; Order Per Filter Section: 5; Program Method: Clock; DatasheetVersion: Rev. 1; PackageVersion: Rev. E, 04/2011; PackageReference: P8-1; PackageDescription: 8-Pin Plastic Dual-In-Line, Narrow (0.3in) (P8-1), Body 9.375 x 6.985 mm, Pitch 2.54 mm; Supplier 1: Mouser; Supplier Part Number 1: N/A; Filter Characteristic: Elliptic; Filter Class: Switched Cap; Filter Type: Lowpass; Mounting Technology: Through Hole; Code_JEDEC: MS001-XX; ComponentLink1Description: Manufacturer URL; ComponentLink1URL: http://www.maximintegrated.com/; ComponentLink2Description: Datasheet; ComponentLink2URL: http://datasheets.maximintegrated.com/en/ds/MAX7408-MAX7415.pdf; ComponentLink3Description: Package Specification; ComponentLink3URL: http://pdfserv.maximintegrated.com/package_dwgs/21-0043.PDF
footprint MAXM-P8-1 (DIP, 8-Leads, Body 9.375x6.985mm, Pitch 2.54mm)
pins: 1 COM "Common Input. Biased internally at midsupply. Bypass externally to GND with a 0.1uF capacitor. To override internal biasing, drive with an external supply.", 2 IN (in) "Filter Input", 3 GND (power) "Ground", 4 VDD (power) "Positive Supply Input: +5V for MAX7400/MAX7403, +3V for MAX7404/MAX7407", 5 OUT (hiz) "Filter Output", 6 OS (in) "Offset Adjust Input. To adjust output offset, bias OS externally. Connect OS to COM if no offset adjustment is needed. Refer to Offset and Common-Mode Input Adjustment section.", 7 ~{SHDN} (in) "Shutdown Input. Drive low to enable shutdown mode; drive high or connect to VDD for normal operation.", 8 CLK "Clock Input. To override the internal oscillator, connect to an external clock; otherwise, connect an external capacitor (COSC) from CLK to GND to set the internal oscillator frequency."

## MAX7412CPA+
designator U?
5th-Order Switched Capacitor Lowpass Filter, Elliptic, 3 V, 0 to 70 degC, 8-Pin DIP (P8+1), Pb-Free; Generic Part Number: MAX7412; PartNumber: MAX7412CPA+; Filter Sections: 1; Order Per Filter Section: 5; Program Method: Clock; DatasheetVersion: Rev. 1; PackageVersion: Rev. E, 04/2011; PackageReference: P8+1; PackageDescription: 8-Pin Plastic Dual-In-Line, Narrow (0.3in) (P8+1), Body 9.375 x 6.985 mm, Pitch 2.54 mm; Supplier 1: Digi-Key; Supplier Part Number 1: MAX7412CPA+-ND; Supplier 2: Mouser; Supplier Part Number 2: 700-MAX7412CPA; Filter Characteristic: Elliptic; Filter Class: Switched Cap; Filter Type: Lowpass; RoHS: Pb-Free; Mounting Technology: Through Hole; Code_JEDEC: MS001-XX; ComponentLink1Description: Manufacturer URL; ComponentLink1URL: http://www.maximintegrated.com/; ComponentLink2Description: Datasheet; ComponentLink2URL: http://datasheets.maximintegrated.com/en/ds/MAX7408-MAX7415.pdf; ComponentLink3Description: Package Specification; ComponentLink3URL: http://pdfserv.maximintegrated.com/package_dwgs/21-0043.PDF
footprint MAXM-P8+1 (DIP, 8-Leads, Body 9.375x6.985mm, Pitch 2.54mm)
pins: 1 COM "Common Input. Biased internally at midsupply. Bypass externally to GND with a 0.1uF capacitor. To override internal biasing, drive with an external supply.", 2 IN (in) "Filter Input", 3 GND (power) "Ground", 4 VDD (power) "Positive Supply Input: +5V for MAX7400/MAX7403, +3V for MAX7404/MAX7407", 5 OUT (hiz) "Filter Output", 6 OS (in) "Offset Adjust Input. To adjust output offset, bias OS externally. Connect OS to COM if no offset adjustment is needed. Refer to Offset and Common-Mode Input Adjustment section.", 7 ~{SHDN} (in) "Shutdown Input. Drive low to enable shutdown mode; drive high or connect to VDD for normal operation.", 8 CLK "Clock Input. To override the internal oscillator, connect to an external clock; otherwise, connect an external capacitor (COSC) from CLK to GND to set the internal oscillator frequency."

## MAX7412CUA
designator U?
5th-Order Switched Capacitor Lowpass Filter, Elliptic, 3 V, 0 to 70 degC, 8-Pin SOP (U8-1); Generic Part Number: MAX7412; PartNumber: MAX7412CUA; Filter Sections: 1; Order Per Filter Section: 5; Program Method: Clock; DatasheetVersion: Rev. 1; PackageVersion: Rev. L, 08/2009; PackageReference: U8-1; PackageDescription: 8-Pin Micro-MAX, Thin Shrink Small-Outline (U8-1), Body 3 x 3 mm, Pitch 0.65mm; Supplier 1: Mouser; Supplier Part Number 1: N/A; Filter Characteristic: Elliptic; Filter Class: Switched Cap; Filter Type: Lowpass; Mounting Technology: Surface Mount; Code_JEDEC: MO-187; ComponentLink1Description: Manufacturer URL; ComponentLink1URL: http://www.maximintegrated.com/; ComponentLink2Description: Datasheet; ComponentLink2URL: http://datasheets.maximintegrated.com/en/ds/MAX7408-MAX7415.pdf; ComponentLink3Description: Package Specification; ComponentLink3URL: http://pdfserv.maximintegrated.com/package_dwgs/21-0036.PDF
footprint MAXM-U8-1_N (SOP, 8-Leads, Body 3x3mm, Pitch 0.65mm, IPC Medium Density)
footprint MAXM-U8-1_L (SOP, 8-Leads, Body 3x3mm, Pitch 0.65mm, IPC High Density)
footprint MAXM-U8-1_M (SOP, 8-Leads, Body 3x3mm, Pitch 0.65mm, IPC Low Density)
pins: 1 COM "Common Input. Biased internally at midsupply. Bypass externally to GND with a 0.1uF capacitor. To override internal biasing, drive with an external supply.", 2 IN (in) "Filter Input", 3 GND (power) "Ground", 4 VDD (power) "Positive Supply Input: +5V for MAX7400/MAX7403, +3V for MAX7404/MAX7407", 5 OUT (hiz) "Filter Output", 6 OS (in) "Offset Adjust Input. To adjust output offset, bias OS externally. Connect OS to COM if no offset adjustment is needed. Refer to Offset and Common-Mode Input Adjustment section.", 7 ~{SHDN} (in) "Shutdown Input. Drive low to enable shutdown mode; drive high or connect to VDD for normal operation.", 8 CLK "Clock Input. To override the internal oscillator, connect to an external clock; otherwise, connect an external capacitor (COSC) from CLK to GND to set the internal oscillator frequency."

## MAX7412CUA+
designator U?
5th-Order Switched Capacitor Lowpass Filter, Elliptic, 3 V, 0 to 70 degC, 8-Pin SOP (U8+1), Pb-Free; Generic Part Number: MAX7412; PartNumber: MAX7412CUA+; Filter Sections: 1; Order Per Filter Section: 5; Program Method: Clock; DatasheetVersion: Rev. 1; PackageVersion: Rev. L, 08/2009; PackageReference: U8+1; PackageDescription: 8-Pin Micro-MAX, Thin Shrink Small-Outline (U8+1), Body 3 x 3 mm, Pitch 0.65 mm; Supplier 1: Digi-Key; Supplier Part Number 1: MAX7412CUA+-ND; Supplier 2: Mouser; Supplier Part Number 2: 700-MAX7412CUA; Filter Characteristic: Elliptic; Filter Class: Switched Cap; Filter Type: Lowpass; RoHS: Pb-Free; Mounting Technology: Surface Mount; Code_JEDEC: MO-187; ComponentLink1Description: Manufacturer URL; ComponentLink1URL: http://www.maximintegrated.com/; ComponentLink2Description: Datasheet; ComponentLink2URL: http://datasheets.maximintegrated.com/en/ds/MAX7408-MAX7415.pdf; ComponentLink3Description: Package Specification; ComponentLink3URL: http://pdfserv.maximintegrated.com/package_dwgs/21-0036.PDF
footprint MAXM-U8+1_N (SOP, 8-Leads, Body 3x3mm, Pitch 0.65mm, IPC Medium Density)
footprint MAXM-U8+1_L (SOP, 8-Leads, Body 3x3mm, Pitch 0.65mm, IPC High Density)
footprint MAXM-U8+1_M (SOP, 8-Leads, Body 3x3mm, Pitch 0.65mm, IPC Low Density)
pins: 1 COM "Common Input. Biased internally at midsupply. Bypass externally to GND with a 0.1uF capacitor. To override internal biasing, drive with an external supply.", 2 IN (in) "Filter Input", 3 GND (power) "Ground", 4 VDD (power) "Positive Supply Input: +5V for MAX7400/MAX7403, +3V for MAX7404/MAX7407", 5 OUT (hiz) "Filter Output", 6 OS (in) "Offset Adjust Input. To adjust output offset, bias OS externally. Connect OS to COM if no offset adjustment is needed. Refer to Offset and Common-Mode Input Adjustment section.", 7 ~{SHDN} (in) "Shutdown Input. Drive low to enable shutdown mode; drive high or connect to VDD for normal operation.", 8 CLK "Clock Input. To override the internal oscillator, connect to an external clock; otherwise, connect an external capacitor (COSC) from CLK to GND to set the internal oscillator frequency."

## MAX7412CUA+T
designator U?
5th-Order Switched Capacitor Lowpass Filter, Elliptic, 3 V, 0 to 70 degC, 8-Pin SOP (U8+1), Pb-Free, Tape and Reel; Generic Part Number: MAX7412; PartNumber: MAX7412CUA+T; Filter Sections: 1; Order Per Filter Section: 5; Program Method: Clock; DatasheetVersion: Rev. 1; PackageVersion: Rev. L, 08/2009; PackageReference: U8+1; PackageDescription: 8-Pin Micro-MAX, Thin Shrink Small-Outline (U8+1), Body 3 x 3 mm, Pitch 0.65 mm; Supplier 1: Digi-Key; Supplier Part Number 1: MAX7412CUA+T-ND; Supplier 2: Mouser; Supplier Part Number 2: 700-MAX7412CUAT; Filter Characteristic: Elliptic; Filter Class: Switched Cap; Filter Type: Lowpass; Packing: Tape and Reel; RoHS: Pb-Free; Mounting Technology: Surface Mount; Code_JEDEC: MO-187; ComponentLink1Description: Manufacturer URL; ComponentLink1URL: http://www.maximintegrated.com/; ComponentLink2Description: Datasheet; ComponentLink2URL: http://datasheets.maximintegrated.com/en/ds/MAX7408-MAX7415.pdf; ComponentLink3Description: Package Specification; ComponentLink3URL: http://pdfserv.maximintegrated.com/package_dwgs/21-0036.PDF
footprint MAXM-U8+1_N (SOP, 8-Leads, Body 3x3mm, Pitch 0.65mm, IPC Medium Density)
footprint MAXM-U8+1_L (SOP, 8-Leads, Body 3x3mm, Pitch 0.65mm, IPC High Density)
footprint MAXM-U8+1_M (SOP, 8-Leads, Body 3x3mm, Pitch 0.65mm, IPC Low Density)
pins: 1 COM "Common Input. Biased internally at midsupply. Bypass externally to GND with a 0.1uF capacitor. To override internal biasing, drive with an external supply.", 2 IN (in) "Filter Input", 3 GND (power) "Ground", 4 VDD (power) "Positive Supply Input: +5V for MAX7400/MAX7403, +3V for MAX7404/MAX7407", 5 OUT (hiz) "Filter Output", 6 OS (in) "Offset Adjust Input. To adjust output offset, bias OS externally. Connect OS to COM if no offset adjustment is needed. Refer to Offset and Common-Mode Input Adjustment section.", 7 ~{SHDN} (in) "Shutdown Input. Drive low to enable shutdown mode; drive high or connect to VDD for normal operation.", 8 CLK "Clock Input. To override the internal oscillator, connect to an external clock; otherwise, connect an external capacitor (COSC) from CLK to GND to set the internal oscillator frequency."

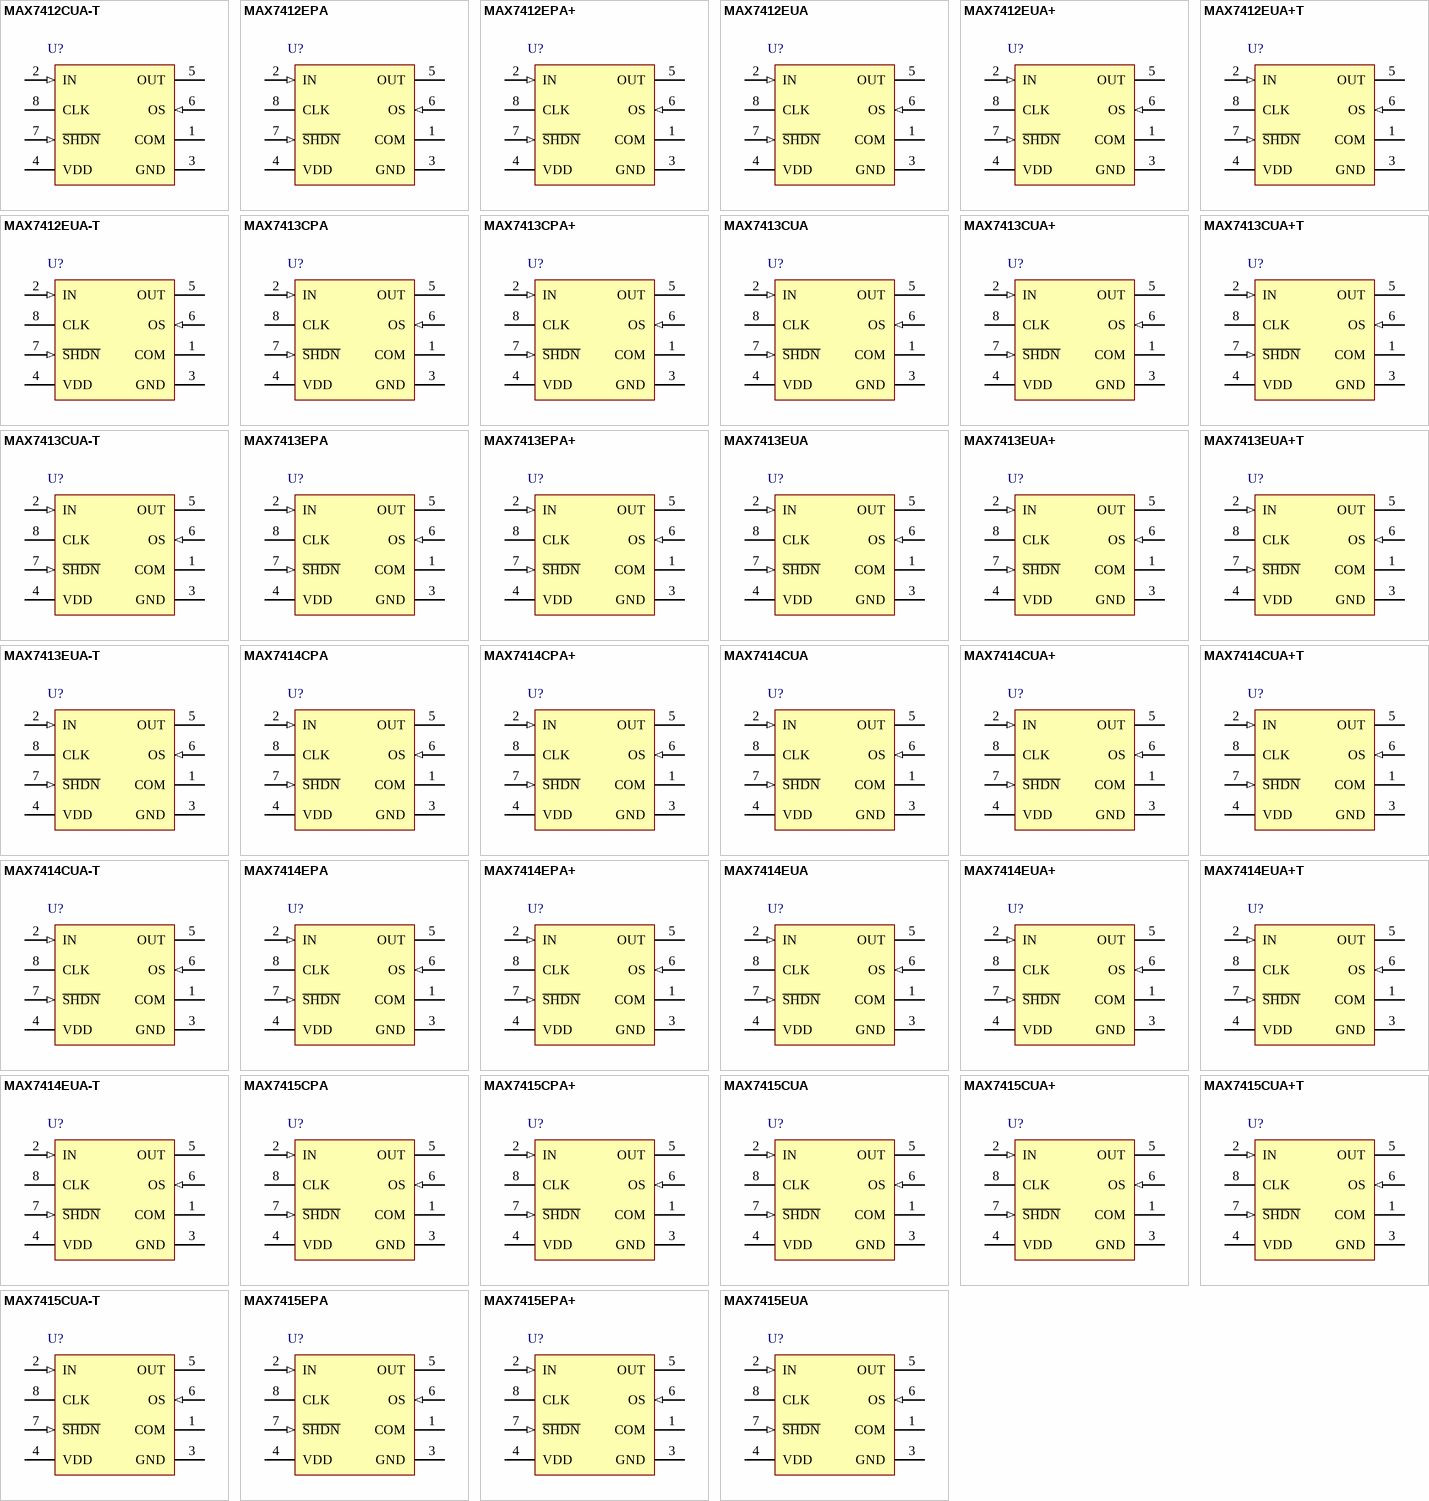
[diagram p14: symbols MAX7412CUA-T to MAX7415EUA]

## MAX7412CUA-T
designator U?
5th-Order Switched Capacitor Lowpass Filter, Elliptic, 3 V, 0 to 70 degC, 8-Pin SOP (U8-1), Tape and Reel; Generic Part Number: MAX7412; PartNumber: MAX7412CUA-T; Filter Sections: 1; Order Per Filter Section: 5; Program Method: Clock; DatasheetVersion: Rev. 1; PackageVersion: Rev. L, 08/2009; PackageReference: U8-1; PackageDescription: 8-Pin Micro-MAX, Thin Shrink Small-Outline (U8-1), Body 3 x 3 mm, Pitch 0.65mm; Supplier 1: Mouser; Supplier Part Number 1: N/A; Filter Characteristic: Elliptic; Filter Class: Switched Cap; Filter Type: Lowpass; Packing: Tape and Reel; Mounting Technology: Surface Mount; Code_JEDEC: MO-187; ComponentLink1Description: Manufacturer URL; ComponentLink1URL: http://www.maximintegrated.com/; ComponentLink2Description: Datasheet; ComponentLink2URL: http://datasheets.maximintegrated.com/en/ds/MAX7408-MAX7415.pdf; ComponentLink3Description: Package Specification; ComponentLink3URL: http://pdfserv.maximintegrated.com/package_dwgs/21-0036.PDF
footprint MAXM-U8-1_N (SOP, 8-Leads, Body 3x3mm, Pitch 0.65mm, IPC Medium Density)
footprint MAXM-U8-1_L (SOP, 8-Leads, Body 3x3mm, Pitch 0.65mm, IPC High Density)
footprint MAXM-U8-1_M (SOP, 8-Leads, Body 3x3mm, Pitch 0.65mm, IPC Low Density)
pins: 1 COM "Common Input. Biased internally at midsupply. Bypass externally to GND with a 0.1uF capacitor. To override internal biasing, drive with an external supply.", 2 IN (in) "Filter Input", 3 GND (power) "Ground", 4 VDD (power) "Positive Supply Input: +5V for MAX7400/MAX7403, +3V for MAX7404/MAX7407", 5 OUT (hiz) "Filter Output", 6 OS (in) "Offset Adjust Input. To adjust output offset, bias OS externally. Connect OS to COM if no offset adjustment is needed. Refer to Offset and Common-Mode Input Adjustment section.", 7 ~{SHDN} (in) "Shutdown Input. Drive low to enable shutdown mode; drive high or connect to VDD for normal operation.", 8 CLK "Clock Input. To override the internal oscillator, connect to an external clock; otherwise, connect an external capacitor (COSC) from CLK to GND to set the internal oscillator frequency."

## MAX7412EPA
designator U?
5th-Order Switched Capacitor Lowpass Filter, Elliptic, 3 V, -40 to 85 degC, 8-Pin DIP (P8-1); Generic Part Number: MAX7412; PartNumber: MAX7412EPA; Filter Sections: 1; Order Per Filter Section: 5; Program Method: Clock; DatasheetVersion: Rev. 1; PackageVersion: Rev. E, 04/2011; PackageReference: P8-1; PackageDescription: 8-Pin Plastic Dual-In-Line, Narrow (0.3in) (P8-1), Body 9.375 x 6.985 mm, Pitch 2.54 mm; Supplier 1: Mouser; Supplier Part Number 1: N/A; Filter Characteristic: Elliptic; Filter Class: Switched Cap; Filter Type: Lowpass; Mounting Technology: Through Hole; Code_JEDEC: MS001-XX; ComponentLink1Description: Manufacturer URL; ComponentLink1URL: http://www.maximintegrated.com/; ComponentLink2Description: Datasheet; ComponentLink2URL: http://datasheets.maximintegrated.com/en/ds/MAX7408-MAX7415.pdf; ComponentLink3Description: Package Specification; ComponentLink3URL: http://pdfserv.maximintegrated.com/package_dwgs/21-0043.PDF
footprint MAXM-P8-1 (DIP, 8-Leads, Body 9.375x6.985mm, Pitch 2.54mm)
pins: 1 COM "Common Input. Biased internally at midsupply. Bypass externally to GND with a 0.1uF capacitor. To override internal biasing, drive with an external supply.", 2 IN (in) "Filter Input", 3 GND (power) "Ground", 4 VDD (power) "Positive Supply Input: +5V for MAX7400/MAX7403, +3V for MAX7404/MAX7407", 5 OUT (hiz) "Filter Output", 6 OS (in) "Offset Adjust Input. To adjust output offset, bias OS externally. Connect OS to COM if no offset adjustment is needed. Refer to Offset and Common-Mode Input Adjustment section.", 7 ~{SHDN} (in) "Shutdown Input. Drive low to enable shutdown mode; drive high or connect to VDD for normal operation.", 8 CLK "Clock Input. To override the internal oscillator, connect to an external clock; otherwise, connect an external capacitor (COSC) from CLK to GND to set the internal oscillator frequency."